# Altium footprint library DXP格式PCB封装库.PcbLib: 16 footprints
Each footprint in its own frame and in the unit in brackets; x right, y up, seen from the top. Pads: shape width x height; smd on the part's side, far side on the other; paste and mask are expansions set on the pad; w line width, h text height; cw(c..) or ccw(c..) is an arc to the next point about the centre after c.
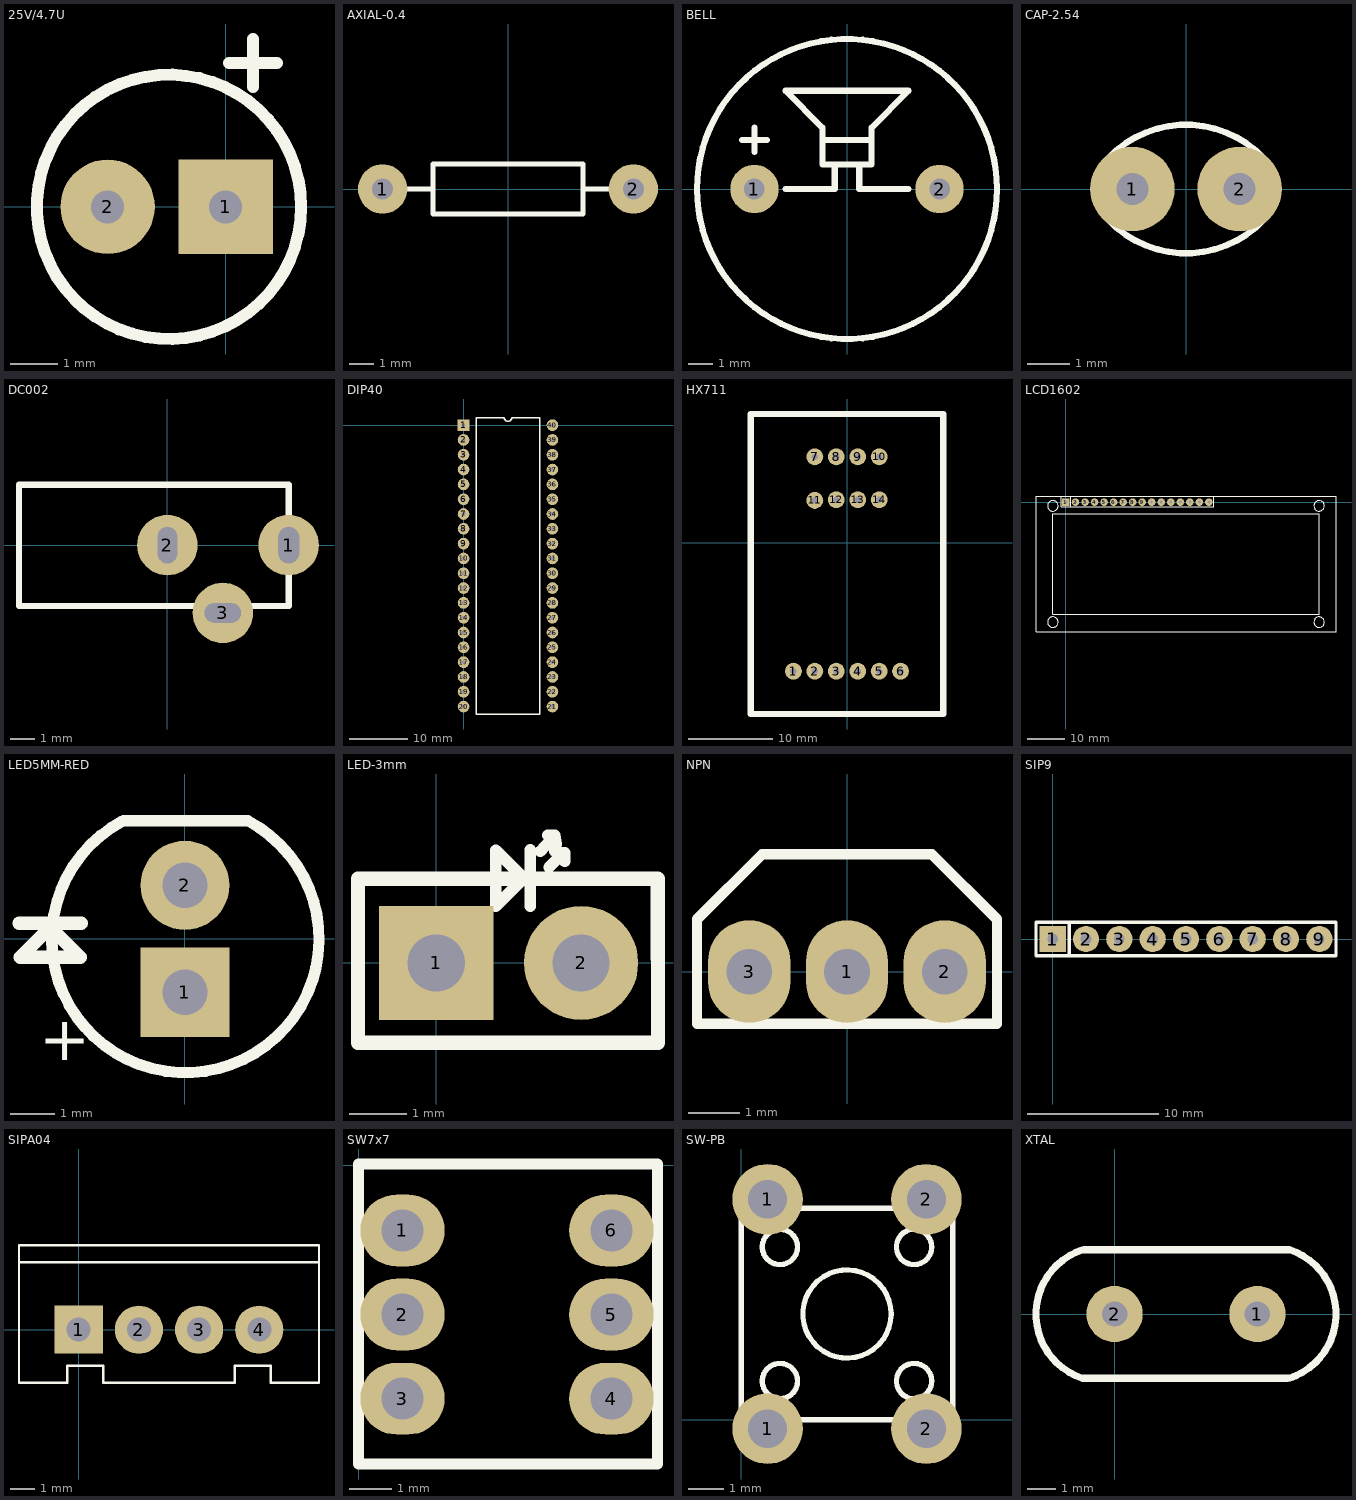
[diagram p0: the footprints below, top view; thin cyan lines are the x and y axes]

## 25V/4.7U [mm]
pads (2):
  rect 2x2 hole 0.7: 1(0,0)
  round 2 hole 0.7: 2(-2.5,0)
Top Overlay:
  circle w0.254: c-1.2,0 r2.8
  lines w0.254: 0.07,3.048 1.086,3.048 ; 0.578,2.54 0.578,3.556
3D body: height 7.3, standoff -1.2, extent -3.683,-2.496 1.315,2.496

## AXIAL-0.4 [mm] "1/4W/1/2W"
height 2.032
pads (2):
  round 2 hole 0.85: 1(-5.08,0) 2(5.08,0)
Top Overlay:
  lines w0.2: -4.064,0 -3.048,0 ; 3.048,0 4.064,0 ; -3.048,-1.016 3.048,-1.016 3.048,1.016 -3.048,1.016 -3.048,-1.016
3D body: height 2.41, standoff -2, extent -5.38,-1.2 5.38,1.2

## BELL [mm]
pads (2):
  round 2 hole 0.85: 1(-3.825,0) 2(3.825,0)
Top Overlay:
  circle w0.254: c0,0 r6.2
  lines w0.254: -4.333,2.032 -3.317,2.032 ; -3.825,1.524 -3.825,2.54 ; -2.54,0 -0.508,0 -0.508,1.016 ; -1.016,2.032 1.016,2.032 ; 0.508,1.016 0.508,0 2.54,0 ; -2.54,4.064 2.54,4.064 1.016,2.54 1.016,1.016 -1.016,1.016 -1.016,2.54 -2.54,4.064
3D body: height 9.65, standoff -4.5, extent -9.708,-6.127 5.746,5.873

## CAP-2.54 [mm]
pads (2):
  round 2 hole 0.762: 1(-1.27,0) 2(1.27,0)
Top Overlay:
  lines w0.15: -2.032,-0.508 ccw(c0,1.016) 2.032,-0.508 ; -2.032,0.508 cw(c0,-1.016) 2.032,0.508 ; -2.031,-0.507 cw(c-1.27,0) -2.031,0.507 ; 2.031,-0.507 ccw(c1.27,0) 2.031,0.507
3D body: height 5.92, standoff -2, extent -2.919,-0.848 2.919,0.848

## DC002 [mm]
pads (3):
  round 2.5 hole 0.86 slot 1.5 at 90 deg: 1(5.004,0)
  round 2.5 hole 0.8 slot 1.5 at 90 deg: 2(0,0)
  round 2.5 hole 0.8 slot 1.5 at 0 deg: 3(2.286,-2.794)
Top Overlay:
  lines w0.254: -6.121,-2.515 -6.121,2.489 5.004,2.489 5.004,-2.515 -6.121,-2.515
3D body: height 7.4, standoff -3.2, extent -6.257,-2.962 5.343,2.438

## DIP40 [mm]
pads (40):
  rect 2x2 hole 0.635: 1(0,0)
  round 2 hole 0.635: 2(0,-2.54) 3(0,-5.08) 4(0,-7.62) 5(0,-10.16) 6(0,-12.7) 7(0,-15.24) 8(0,-17.78) 9(0,-20.32) 10(0,-22.86) 11(0,-25.4) 12(0,-27.94) 13(0,-30.48) 14(0,-33.02) 15(0,-35.56) 16(0,-38.1) 17(0,-40.64) 18(0,-43.18) 19(0,-45.72) 20(0,-48.26) 21(15.24,-48.26) 22(15.24,-45.72) 23(15.24,-43.18) 24(15.24,-40.64) 25(15.24,-38.1) 26(15.24,-35.56) 27(15.24,-33.02) 28(15.24,-30.48) 29(15.24,-27.94) 30(15.24,-25.4) 31(15.24,-22.86) 32(15.24,-20.32) 33(15.24,-17.78) 34(15.24,-15.24) 35(15.24,-12.7) 36(15.24,-10.16) 37(15.24,-7.62) 38(15.24,-5.08) 39(15.24,-2.54) 40(15.24,0)
Top Overlay:
  lines w0.254: 2.159,-49.53 13.081,-49.53 13.081,1.27 8.255,1.27 cw(c7.62,1.27) 6.985,1.27 2.159,1.27 2.159,-49.53
3D body: height 5.7, standoff -2.58, extent 0,-50.609 15.49,1.841

## HX711 [mm]
height 5.08
pads (14):
  round 2 hole 0.762: 1(-6.35,-15.24) 2(-3.81,-15.24) 3(-1.27,-15.24) 4(1.27,-15.24) 5(3.81,-15.24) 6(6.35,-15.24) 7(-3.81,10.16) 8(-1.27,10.16) 9(1.27,10.16) 10(3.81,10.16) 11(-3.81,5) 12(-1.27,5.08) 13(1.27,5.08) 14(3.81,5.08)
Top Overlay:
  lines w0.762: 11.43,15.113 11.43,-20.32 -11.43,-20.32 -11.43,15.24 11.43,15.24

## LCD1602 [mm]
pads (16):
  rect 2x2 hole 0.813: 1(0,0)
  round 2 hole 0.813: 2(2.54,0) 3(5.08,0) 4(7.62,0) 5(10.16,0) 6(12.7,0) 7(15.24,0) 8(17.78,0) 9(20.32,0) 10(22.86,0) 11(25.4,0) 12(27.94,0) 13(30.48,0) 14(33.02,0) 15(35.56,0) 16(38.1,0)
Top Overlay:
  circle w0.15: c-3.5,-1 r1.4
  circle w0.15: c-3.5,-32 r1.4
  circle w0.15: c67.5,-1 r1.4
  circle w0.15: c67.5,-32 r1.4
  lines w0.152: -8,-34.5 -8,1.5 72,1.5 72,-34.5 -8,-34.5 ; -3.5,-29.9 67.5,-29.9 67.5,-3.1 -3.5,-3.1 -3.5,-29.9
  lines w0.254: -1.27,1.27 -1.27,-1.27 39.37,-1.27 39.37,1.27 ; 1.27,-1.27 1.27,1.27
3D body: height 10.6, standoff -2.55, extent -8.377,-34.764 71.623,1.236

## LED5MM-RED [mm]
pads (2):
  rect 2x2 hole 1.016: 1(0,-1.2)
  round 2 hole 1.016: 2(0,1.2)
Top Overlay:
  lines w0.254: -1.4,2.644 ccw(c0.009,-0.005) 1.411,2.647 -1.378,2.647
  lines w0.3: -3.725,0.351 -2.328,0.351 ; -3.7,-0.411 -3.027,0.262 -2.354,-0.411 -2.608,-0.411 -3.7,-0.411
  text "+" at -3.268,-2.723 h1
3D body: height 8.6, standoff -2, extent -2.846,-2.891 2.853,2.459

## LED-3mm [mm]
pads (2):
  rect 2x2 hole 1: 1(0,0)
  round 2 hole 1: 2(2.54,0)
Top Overlay:
  lines w0.2: 1.646,0.991 1.646,1.981 ; 1.824,1.955 2.078,2.234 ; 1.951,2.234 2.078,2.234 ; 1.976,1.675 2.23,1.929 2.078,1.955 ; 2.103,2.082 2.078,2.234 ; 2.256,1.777 2.256,1.929 ; 1.041,0.994 1.041,1.975 1.532,1.485 1.041,0.994
  lines w0.254: -1.372,-1.397 3.887,-1.397 3.884,1.473 -1.372,1.473 -1.372,-1.397
3D body: height 5.38, standoff -3.17, extent -0.722,-2.019 3.262,1.473

## NPN [mm]
pads (3):
  oval 1.6x2 hole 0.889: 1(0,0) 2(1.905,0) 3(-1.905,0)
Top Overlay:
  lines w0.203: -2.921,-1.016 -2.921,1.016 -1.651,2.286 1.651,2.286 2.921,1.016 2.921,-1.016 -2.921,-1.016
3D body: height 6.83, standoff -12.7, extent -2.384,-1.307 2.376,2.323

## SIP9 [mm]
pads (9):
  rect 2x2 hole 0.813: 1(0,0)
  round 2 hole 0.813: 2(2.54,0) 3(5.08,0) 4(7.62,0) 5(10.16,0) 6(12.7,0) 7(15.24,0) 8(17.78,0) 9(20.32,0)
Top Overlay:
  lines w0.254: 1.27,-1.27 1.27,1.27 ; -1.27,-1.27 21.59,-1.27 21.59,1.27 -1.27,1.27 -1.27,-1.27
3D body: height 5.3, standoff -3.2, extent -1.09,-0.742 21.41,0.508

## SIPA04 [mm]
pads (4):
  rect 2x2 hole 1: 1(0,0)
  round 2 hole 1: 2(2.5,0) 3(5,0) 4(7.5,0)
Top Overlay:
  lines w0.1: -2.48,2.8 9.976,2.8 ; -2.48,-2.2 -2.48,3.5 9.98,3.5 9.98,-2.2 7.98,-2.2 7.98,-1.5 6.48,-1.5 6.48,-2.2 1.02,-2.2 1.02,-1.5 -0.48,-1.5 -0.48,-2.2 -2.48,-2.2
3D body: height 7, standoff -3.5, extent -2.5,-2.25 10,3.45

## SW7x7 [mm]
pads (6):
  oval 2x1.7 hole 1: 1(1.041,-1.549) 2(1.041,-3.543) 3(1.041,-5.537) 4(5.994,-5.537) 5(5.994,-3.543) 6(5.994,-1.549)
Top Overlay:
  lines w0.254: 0,-7.087 0,0.025 7.087,0.025 7.087,-7.087 0,-7.087
3D body: height 13, standoff -4, extent -0.02,-7.087 6.98,-0.087

## SW-PB [mm]
pads (4):
  round 2 hole 1.1: 1(0.75,-0.25) 1(0.75,6.25) 2(5.25,-0.25) 2(5.25,6.25)
Top Overlay:
  circle w0.15: c3,3 r1.25
  circle w0.15: c4.9,4.9 r0.5
  circle w0.15: c1.1,4.9 r0.5
  circle w0.15: c4.9,1.1 r0.5
  circle w0.15: c1.1,1.1 r0.5
  lines w0.15: 0,0 6,0 6,6 0,6 0,0
3D body: height 5, standoff -3.5, extent -0.25,-1.134 6.25,7.134

## XTAL [mm]
pads (2):
  round 2 hole 0.9: 1(5.08,0) 2(0,0)
Top Overlay:
  lines w0.254: -1.144,-2.289 cw(c-0.391,-0.003) -1.142,2.283 ; -1.143,-2.286 6.144,-2.286 ; -1.09,2.286 6.223,2.286 ; 6.222,-2.283 ccw(c5.471,0.003) 6.224,2.289
3D body: height 3.5, standoff -4, extent -3.092,-2.331 8.258,2.319